# EAGLE library part LTC2377CMS-20PBF (library custom_dzmitry)
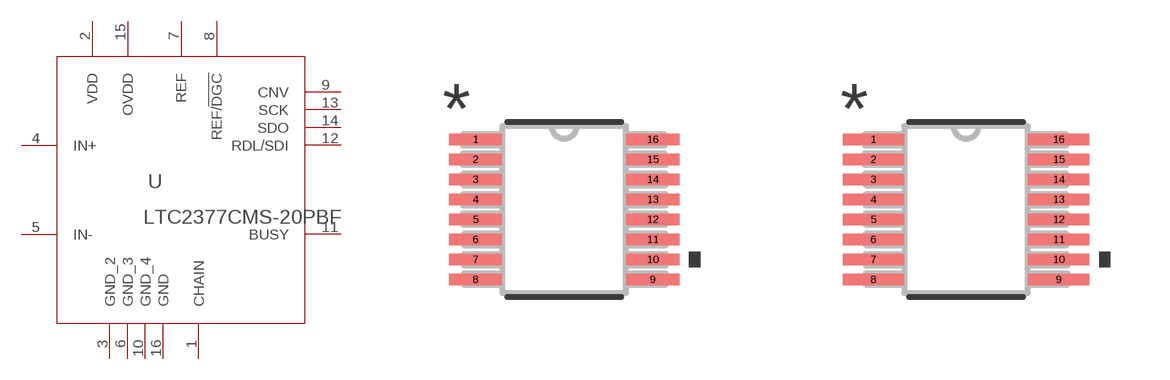
[diagram p6: symbol with the pads of MSOP-16_MS_LIT; footprints MSOP-16_MS_LIT, MSOP-16_MS_LIT-M]

Designator prefix U

## LTC2377CMS-20PBF (BUILT_BY: EMA_UL_Team; MANUFACTURER_PART_NUMBER: LTC2377CMS-20#PBF; SOURCELIBRARY: LinearTech_2016-05-13_7; VENDOR: Linear Technology)  [MSOP-16_MS_LIT]
1  CHAIN  pas
2  VDD  pwr
3  GND_2  pwr
4  IN+  in
5  IN-  in
6  GND_3  pwr
7  REF  in
8  REF/!DGC  pas
9  CNV  in
10  GND_4  pwr
11  BUSY  pas
12  RDL/SDI  in
13  SCK  in
14  SDO  out
15  OVDD  pwr
16  GND  pwr

## LTC2377CMS-20PBFMSOP-16_MS_LIT-M (BUILT_BY: EMA_UL_Team; MANUFACTURER_PART_NUMBER: LTC2377CMS-20#PBF; SOURCELIBRARY: LinearTech_2016-05-13_7; VENDOR: Linear Technology)  [MSOP-16_MS_LIT-M]
Pads as for MSOP-16_MS_LIT

## LTC2377CMS-20PBFMSOP-16_MS_LIT-L (BUILT_BY: EMA_UL_Team; MANUFACTURER_PART_NUMBER: LTC2377CMS-20#PBF; SOURCELIBRARY: LinearTech_2016-05-13_7; VENDOR: Linear Technology)  [MSOP-16_MS_LIT-L]
Pads as for MSOP-16_MS_LIT

## Footprint MSOP-16_MS_LIT (pad centres in mm)
smd 1.333 x 0.279: 1 -2.216,1.751; 2 -2.216,1.251; 3 -2.216,0.751; 4 -2.216,0.25; 5 -2.216,-0.25; 6 -2.216,-0.751; 7 -2.216,-1.251; 8 -2.216,-1.751; 9 2.216,-1.751; 10 2.216,-1.251; 11 2.216,-0.751; 12 2.216,-0.25; 13 2.216,0.25; 14 2.216,0.751; 15 2.216,1.251; 16 2.216,1.751

## Footprint MSOP-16_MS_LIT-M (pad centres in mm)
smd 1.537 x 0.279: 1 -2.318,1.751; 2 -2.318,1.251; 3 -2.318,0.751; 4 -2.318,0.25; 5 -2.318,-0.25; 6 -2.318,-0.751; 7 -2.318,-1.251; 8 -2.318,-1.751; 9 2.318,-1.751; 10 2.318,-1.251; 11 2.318,-0.751; 12 2.318,-0.25; 13 2.318,0.25; 14 2.318,0.751; 15 2.318,1.251; 16 2.318,1.751

## Footprint MSOP-16_MS_LIT-L (pad centres in mm)
smd 1.092 x 0.229: 1 -2.134,1.751; 2 -2.134,1.251; 3 -2.134,0.751; 4 -2.134,0.25; 5 -2.134,-0.25; 6 -2.134,-0.751; 7 -2.134,-1.251; 8 -2.134,-1.751; 9 2.134,-1.751; 10 2.134,-1.251; 11 2.134,-0.751; 12 2.134,-0.25; 13 2.134,0.25; 14 2.134,0.751; 15 2.134,1.251; 16 2.134,1.751